# Altium footprint library Power Inductors.PcbLib: 26 footprints (part 2 of 2)
Each footprint in its own frame and in the unit in brackets; x right, y up, seen from the top. Pads: shape width x height; smd on the part's side, far side on the other; paste and mask are expansions set on the pad; w line width, h text height; cw(c..) or ccw(c..) is an arc to the next point about the centre after c.
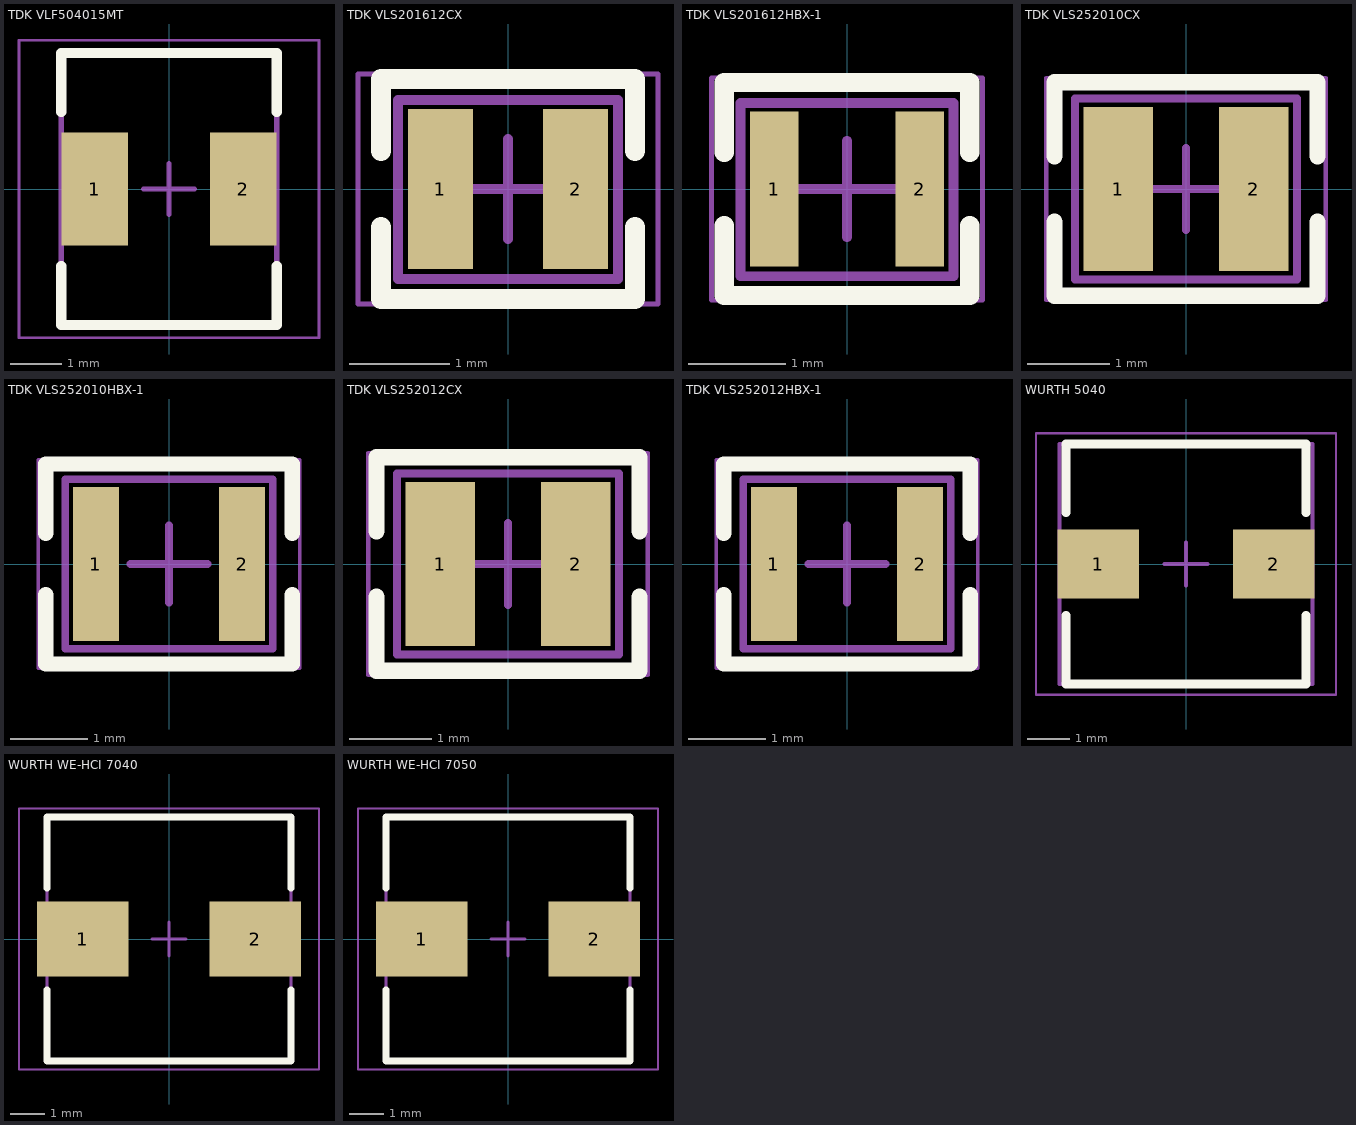
[diagram p1: the footprints below, top view; thin cyan lines are the x and y axes]

## TDK VLF504015MT [mm] "Wire Wound Inductor, 2-Leads, Body 4.00x5.00mm, IPC Medium Density"
height 1.5
pads (2):
  rect 1.3x2.2 smd: 1(-1.45,0) 2(1.45,0)
Top Overlay:
  lines w0.2: -2.1,-1.5 -2.1,-2.65 2.1,-2.65 2.1,-1.5 ; -2.1,1.5 -2.1,2.65 2.1,2.65 2.1,1.5
Mechanical 13:
  lines w0.1: -2.1,-2.65 2.1,-2.65 2.1,2.65 -2.1,2.65 -2.1,-2.65
Mechanical 15:
  lines w0.05: -2.925,-2.9 2.925,-2.9 2.925,2.9 -2.925,2.9 -2.925,-2.9
  lines w0.1: -0.5,0 0.5,0 ; 0,-0.5 0,0.5
3D body "VLF504015MT.STEP": height 1.5, standoff 0, extent -2,-2.5 2,2.5

## TDK VLS201612CX [mm] "Inductor, 2-Leads, Body 2.00x1.60mm, IPC Medium Density"
height 1.2
pads (2):
  rect 0.65x1.6 smd: 1(-0.675,0) 2(0.675,0)
Top Overlay:
  lines w0.2: -1.27,-0.381 -1.27,-1.1 1.27,-1.1 1.27,-0.381 ; -1.27,0.381 -1.27,1.1 1.27,1.1 1.27,0.381
Mechanical 13:
  lines w0.1: -1.1,-0.9 1.1,-0.9 1.1,0.889 -1.1,0.889 -1.1,-0.9
Mechanical 15:
  lines w0.05: -1.5,-1.15 1.5,-1.15 1.5,1.15 -1.5,1.15 -1.5,-1.15
  lines w0.1: -0.5,0 0.5,0 ; 0,-0.5 0,0.5
3D body "VLS201612CX.STEP": height 1.2, standoff 0, extent -1,-0.8 1,0.8

## TDK VLS201612HBX-1 [mm] "Inductor, 2-Leads, Body 2.00x1.60mm, IPC Medium Density"
height 1.2
pads (2):
  rect 0.5x1.6 smd: 1(-0.75,0) 2(0.75,0)
Top Overlay:
  lines w0.2: -1.27,-0.381 -1.27,-1.1 1.27,-1.1 1.27,-0.381 ; -1.27,0.381 -1.27,1.1 1.27,1.1 1.27,0.381
Mechanical 13:
  lines w0.1: -1.1,-0.9 -1.1,0.889 1.1,0.889 1.1,-0.9 -1.1,-0.9
Mechanical 15:
  lines w0.05: -1.4,-1.15 -1.4,1.15 1.4,1.15 1.4,-1.15 -1.4,-1.15
  lines w0.1: -0.5,0 0.5,0 ; 0,-0.5 0,0.5
3D body "VLS201612.STEP": height 1.2, standoff 0, extent -1,-0.8 1,0.8

## TDK VLS252010CX [mm] "Chip Inductor, 2-Leads, Body 2.50x2.00mm, IPC Medium Density"
height 1
pads (2):
  rect 0.85x2 smd: 1(-0.825,0) 2(0.825,0)
Top Overlay:
  lines w0.2: -1.6,-0.4 -1.6,-1.3 1.6,-1.3 1.6,-0.4 ; -1.6,0.4 -1.6,1.3 1.6,1.3 1.6,0.4
Mechanical 13:
  lines w0.1: -1.35,-1.1 1.35,-1.1 1.35,1.1 -1.35,1.1 -1.35,-1.1
Mechanical 15:
  lines w0.05: -1.7,-1.35 1.7,-1.35 1.7,1.35 -1.7,1.35 -1.7,-1.35
  lines w0.1: -0.5,0 0.5,0 ; 0,-0.5 0,0.5
3D body "VLS252010CX.STEP": height 1, standoff 0, extent -1.25,-1 1.25,1

## TDK VLS252010HBX-1 [mm] "Inductor, 2-Leads, Body 2.50x2.00mm, IPC Medium Density"
height 1
pads (2):
  rect 0.6x2 smd: 1(-0.95,0) 2(0.95,0)
Top Overlay:
  lines w0.2: -1.6,-0.4 -1.6,-1.3 1.6,-1.3 1.6,-0.4 ; -1.6,0.4 -1.6,1.3 1.6,1.3 1.6,0.4
Mechanical 13:
  lines w0.1: -1.35,-1.1 1.35,-1.1 1.35,1.1 -1.35,1.1 -1.35,-1.1
Mechanical 15:
  lines w0.05: -1.7,-1.35 1.7,-1.35 1.7,1.35 -1.7,1.35 -1.7,-1.35
  lines w0.1: -0.5,0 0.5,0 ; 0,-0.5 0,0.5
3D body "VLS252010HBX-1.STEP": height 1.2, standoff 0, extent -1.25,-1 1.25,1

## TDK VLS252012CX [mm] "Inductor, 2-Leads, Body 2.50x2.00mm, IPC Medium Density"
height 1.2
pads (2):
  rect 0.85x2 smd: 1(-0.825,0) 2(0.825,0)
Top Overlay:
  lines w0.2: -1.6,-0.4 -1.6,-1.3 1.6,-1.3 1.6,-0.4 ; -1.6,0.4 -1.6,1.3 1.6,1.3 1.6,0.4
Mechanical 13:
  lines w0.1: -1.35,-1.1 1.35,-1.1 1.35,1.1 -1.35,1.1 -1.35,-1.1
Mechanical 15:
  lines w0.05: -1.7,-1.35 1.7,-1.35 1.7,1.35 -1.7,1.35 -1.7,-1.35
  lines w0.1: -0.5,0 0.5,0 ; 0,-0.5 0,0.5
3D body "VLS252012CX.STEP": height 1.2, standoff 0, extent -1.25,-1 1.25,1

## TDK VLS252012HBX-1 [mm] "Inductor, 2-Leads, Body 2.50x2.00mm, IPC Medium Density"
height 1.2
pads (2):
  rect 0.6x2 smd: 1(-0.95,0) 2(0.95,0)
Top Overlay:
  lines w0.2: -1.6,-0.4 -1.6,-1.3 1.6,-1.3 1.6,-0.4 ; -1.6,0.4 -1.6,1.3 1.6,1.3 1.6,0.4
Mechanical 13:
  lines w0.1: -1.35,-1.1 -1.35,1.1 1.35,1.1 1.35,-1.1 -1.35,-1.1
Mechanical 15:
  lines w0.05: -1.7,-1.35 -1.7,1.35 1.7,1.35 1.7,-1.35 -1.7,-1.35
  lines w0.1: -0.5,0 0.5,0 ; 0,-0.5 0,0.5
3D body "VLS252012HBX-1.STEP": height 1.2, standoff 0, extent -1.25,-1 1.25,1

## WURTH 5040 [mm] "Wire Wound Inductor, 2-Leads, Body 5.60x5.30mm, IPC Medium Density"
height 4.3
pads (2):
  rect 1.9x1.6 smd: 1(-2.05,0) 2(2.05,0)
Top Overlay:
  lines w0.2: -2.8,-1.2 -2.8,-2.8 2.8,-2.8 2.8,-1.2 ; -2.8,1.2 -2.8,2.8 2.8,2.8 2.8,1.2
Mechanical 13:
  lines w0.1: -2.95,-2.8 -2.95,2.8 2.95,2.8 2.95,-2.8 -2.95,-2.8
Mechanical 15:
  lines w0.05: -3.5,-3.05 -3.5,3.05 3.5,3.05 3.5,-3.05 -3.5,-3.05
  lines w0.1: -0.5,0 0.5,0 ; 0,-0.5 0,0.5
3D body "WE-HCI 5040.STEP": height 4, standoff 0, extent -2.79,-2.65 2.79,2.65

## WURTH WE-HCI 7040 [mm]
height 4
pads (2):
  rect 2.7x2.2 smd: 1(-2.55,0) 2(2.55,0)
Top Overlay:
  lines w0.2: -3.6,-1.5 -3.6,-3.6 3.6,-3.6 3.6,-1.5 ; -3.6,1.5 -3.6,3.6 3.6,3.6 3.6,1.5
Mechanical 13:
  lines w0.1: -3.6,-3.6 -3.6,3.6 3.6,3.6 3.6,-3.6 -3.6,-3.6
Mechanical 15:
  lines w0.05: -4.425,-3.85 -4.425,3.85 4.425,3.85 4.425,-3.85 -4.425,-3.85
  lines w0.1: -0.5,0 0.5,0 ; 0,-0.5 0,0.5
3D body "WE-HCI 7040.STEP": height 4, standoff 0, extent -3.49,-3.45 3.49,3.45

## WURTH WE-HCI 7050 [mm]
height 5
pads (2):
  rect 2.7x2.2 smd: 1(-2.55,0) 2(2.55,0)
Top Overlay:
  lines w0.2: -3.6,-1.5 -3.6,-3.6 3.6,-3.6 3.6,-1.5 ; -3.6,1.5 -3.6,3.6 3.6,3.6 3.6,1.5
Mechanical 13:
  lines w0.1: -3.6,-3.6 -3.6,3.6 3.6,3.6 3.6,-3.6 -3.6,-3.6
Mechanical 15:
  lines w0.05: -4.425,-3.85 -4.425,3.85 4.425,3.85 4.425,-3.85 -4.425,-3.85
  lines w0.1: -0.5,0 0.5,0 ; 0,-0.5 0,0.5
3D body "WE-HCI 7050.STEP": height 5, standoff 0, extent -3.49,-3.45 3.49,3.45